# Altium footprint library 7P26000MBPT.PcbLib: 1 footprints
Each footprint in its own frame and in the unit in brackets; x right, y up, seen from the top. Pads: shape width x height; smd on the part's side, far side on the other; paste and mask are expansions set on the pad; w line width, h text height; cw(c..) or ccw(c..) is an arc to the next point about the centre after c.
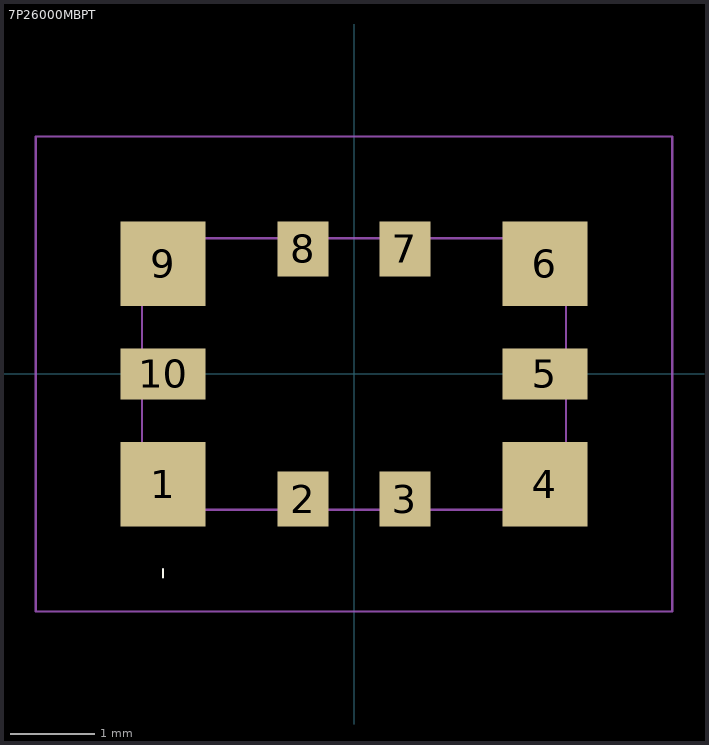
[diagram p0: the footprint, top view; thin cyan lines are the x and y axes]

## 7P26000MBPT [mm]
pads (10):
  rect 1x1 smd paste+0 mask+0: 1(-2.25,-1.3) 4(2.25,-1.3) 6(2.25,1.3) 9(-2.25,1.3)
  rect 0.6x0.65 smd paste+0 mask+0: 2(-0.6,-1.475) 3(0.6,-1.475) 7(0.6,1.475) 8(-0.6,1.475)
  rect 1x0.6 smd paste+0 mask+0: 5(2.25,0) 10(-2.25,0)
Top silk:
  lines w0.025: -2.25,-2.4 -2.25,-2.4 ; -2.25,-2.4 -2.25,-2.3 ; -2.25,-2.4 -2.25,-2.3 ; -2.25,-2.3 -2.25,-2.3
  text ".Designator" at -2.129,-0.21 h0.42
Top Placement:
  lines w0.025: -3.75,-2.8 3.75,-2.8 3.75,2.8 -3.75,2.8 -3.75,-2.8
Top Assembly:
  lines w0.025: -2.5,-1.6 2.5,-1.6 2.5,1.6 -2.5,1.6 -2.5,-1.6